# EAGLE library part COMPARATOR (library audioint)
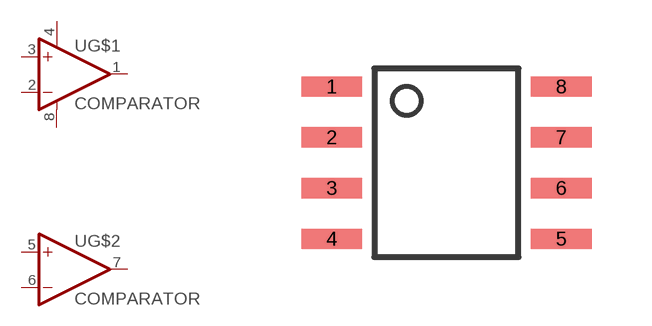
[diagram p4: symbol with the pads of 8-SOIC; footprint 8-SOIC]

Designator prefix -; gates G$1=OP-AMP-VCC G$2=OP-AMP

## COMPARATOR8-SOIC  [8-SOIC]
1  G$1:OUT  out
2  G$1:-IN  in
3  G$1:+IN  in
4  G$1:V-  pwr
5  G$2:+IN  in
6  G$2:-IN  in
7  G$2:OUT  out
8  G$1:V+  pwr

## Footprint 8-SOIC (pad centres in mm)
smd 1.524 x 0.508: 1 -2.87,1.905; 2 -2.87,0.635; 3 -2.87,-0.635; 4 -2.87,-1.905; 5 2.87,-1.905; 6 2.87,-0.635; 7 2.87,0.635; 8 2.87,1.905